# Altium schematic symbol library Schlib1.SchLib: 17 symbols
Pins are listed as number, name and electrical type; pins without a type are passive.

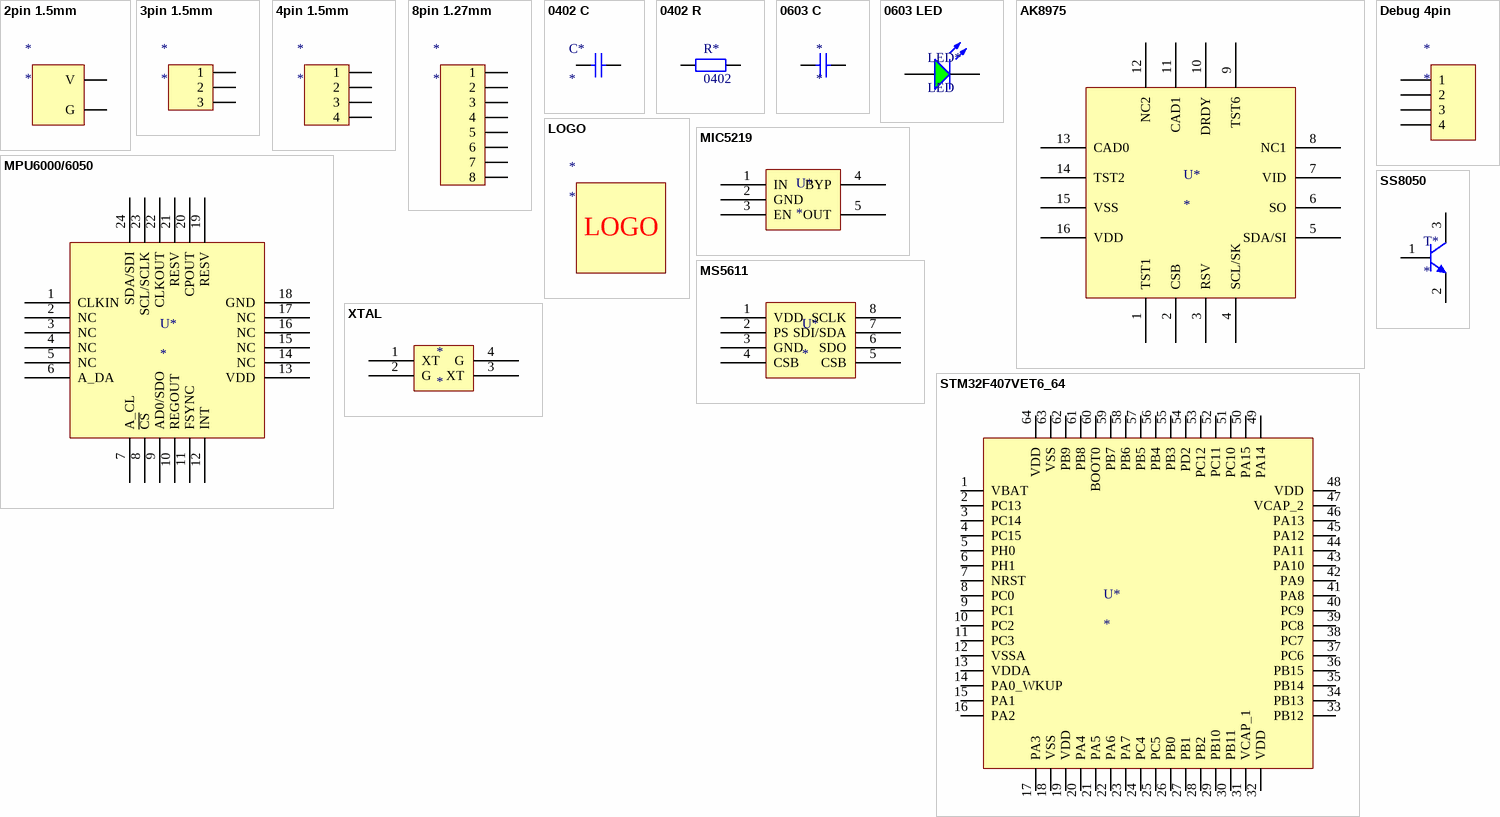
[diagram p0: symbols 2pin 1.5mm to XTAL]

## 2pin 1.5mm
designator *
footprint 2pin 1.5mm
pins: 1 V, 2 G

## 3pin 1.5mm
designator *
footprint 3pin 1.5mm
pins: 1, 2, 3

## 4pin 1.5mm
designator *
footprint 4pin 1.5mm
pins: 1, 2, 3, 4

## 8pin 1.27mm
designator *
footprint 8pin 1.27mm
pins: 1, 2, 3, 4, 5, 6, 7, 8

## 0402 C
designator C*
footprint 0402 C
pins: 1, 2

## 0402 R
designator R*, comment 0402
footprint 0402 R
pins: 1, 2

## 0603 C
designator *
footprint 0603 C
pins: 1, 2

## 0603 LED
designator LED*, comment LED
footprint 0603 LED
pins: A, K

## AK8975
designator U*
footprint AK8975
pins: 1 TST1, 2 CSB, 3 RSV, 4 SCL/SK, 5 SDA/SI, 6 SO, 7 VID, 8 NC1, 9 TST6, 10 DRDY, 11 CAD1, 12 NC2, 13 CAD0, 14 TST2, 15 VSS, 16 VDD

## Debug 4pin
designator *
footprint GH-1.25 4pin
pins: 1, 2, 3, 4

## LOGO
designator *
footprint LOGO

## MIC5219
designator U*
footprint SOT-23 5pin
pins: 1 IN, 2 GND, 3 EN, 4 BYP, 5 OUT

## MPU6000/6050
designator U*
footprint QFN 24pin
pins: 1 CLKIN, 2 NC, 3 NC, 4 NC, 5 NC, 6 A_DA, 7 A_CL, 8 ~{CS}, 9 AD0/SDO, 10 REGOUT, 11 FSYNC, 12 INT, 13 VDD, 14 NC, 15 NC, 16 NC, 17 NC, 18 GND, 19 RESV, 20 CPOUT, 21 RESV, 22 CLKOUT, 23 SCL/SCLK, 24 SDA/SDI

## MS5611
designator U*
footprint MS5611
pins: 1 VDD, 2 PS, 3 GND, 4 CSB, 5 CSB, 6 SDO, 7 SDI/SDA, 8 SCLK

## SS8050
designator T*
footprint SOT-23 3pin
pins: 1 B, 2 E, 3 C

## STM32F407VET6_64
designator U*
footprint LQFP 64pin
pins: 1 VBAT, 2 PC13, 3 PC14, 4 PC15, 5 PH0, 6 PH1, 7 NRST, 8 PC0, 9 PC1, 10 PC2, 11 PC3, 12 VSSA, 13 VDDA, 14 PA0_WKUP, 15 PA1, 16 PA2, 17 PA3, 18 VSS, 19 VDD, 20 PA4, 21 PA5, 22 PA6, 23 PA7, 24 PC4, 25 PC5, 26 PB0, 27 PB1, 28 PB2, 29 PB10, 30 PB11, 31 VCAP_1, 32 VDD, 33 PB12, 34 PB13, 35 PB14, 36 PB15, 37 PC6, 38 PC7, 39 PC8, 40 PC9, 41 PA8, 42 PA9, 43 PA10, 44 PA11, 45 PA12, 46 PA13, 47 VCAP_2, 48 VDD, 49 PA14, 50 PA15, 51 PC10, 52 PC11, 53 PC12, 54 PD2, 55 PB3, 56 PB4, 57 PB5, 58 PB6, 59 PB7, 60 BOOT0, 61 PB8, 62 PB9, 63 VSS, 64 VDD

## XTAL
designator *
footprint XTAL_3225 4pin
pins: 1 XT, 2 G, 3 XT, 4 G